# Altium integrated library QSTL_MicroDSUB_Plug_FFC.IntLib: 2 symbols
Pins are listed as number, name and electrical type; pins without a type are passive.

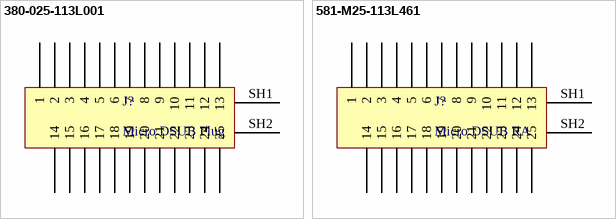
[diagram p0: symbols 380-025-113L001 to 581-M25-113L461]

## 380-025-113L001
designator J?, comment Micro DSUB Plug
https://www.digikey.ca/en/products/detail/norcomp-inc/380-025-113L001/2798597
footprint 380-025-113L001 (https://www.digikey.ca/en/products/detail/norcomp-inc/380-025-213L001/2798600)
pins: 1, 2, 3, 4, 5, 6, 7, 8, 9, 10, 11, 12, 13, 14, 15, 16, 17, 18, 19, 20, 21, 22, 23, 24, 25, SH1, SH2

## 581-M25-113L461
designator J?, comment Micro DSUB RA
https://www.digikey.com/en/products/detail/norcomp-inc/581-M25-113L461/13557494
footprint 581-M25-113L461 (https://www.digikey.com/en/products/detail/norcomp-inc/581-M25-113L461/13557494)
pins: 1, 2, 3, 4, 5, 6, 7, 8, 9, 10, 11, 12, 13, 14, 15, 16, 17, 18, 19, 20, 21, 22, 23, 24, 25, SH1, SH2